# Altium schematic symbol library CN HDR 6POS Molex 43045-0622 (R).Schlib: 1 symbol
Pins are listed as number, name and electrical type; pins without a type are passive.

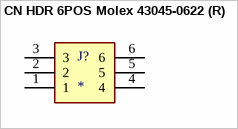
[diagram p0: symbol CN HDR 6POS Molex 43045-0622 (R)]

## CN HDR 6POS Molex 43045-0622 (R)
designator J?
Molex 43045-0622 6POS Microfit / dual row, right angle
footprint 430450622
pins: 1, 2, 3, 4, 5, 6